# Altium schematic symbol library ZXCT1110W5-7.SchLib: 1 symbol
Pins are listed as number, name and electrical type; pins without a type are passive.

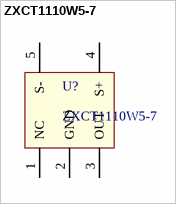
[diagram p0: symbol ZXCT1110W5-7]

## ZXCT1110W5-7
designator U?
PP1: 1.09000; PP100: 0.75840
pins: 1 NC, 2 GND, 3 OUT, 4 S+, 5 S-